# Altium schematic symbol library negm_library.SchLib: 41 symbols
Pins are listed as number, name and electrical type; pins without a type are passive.

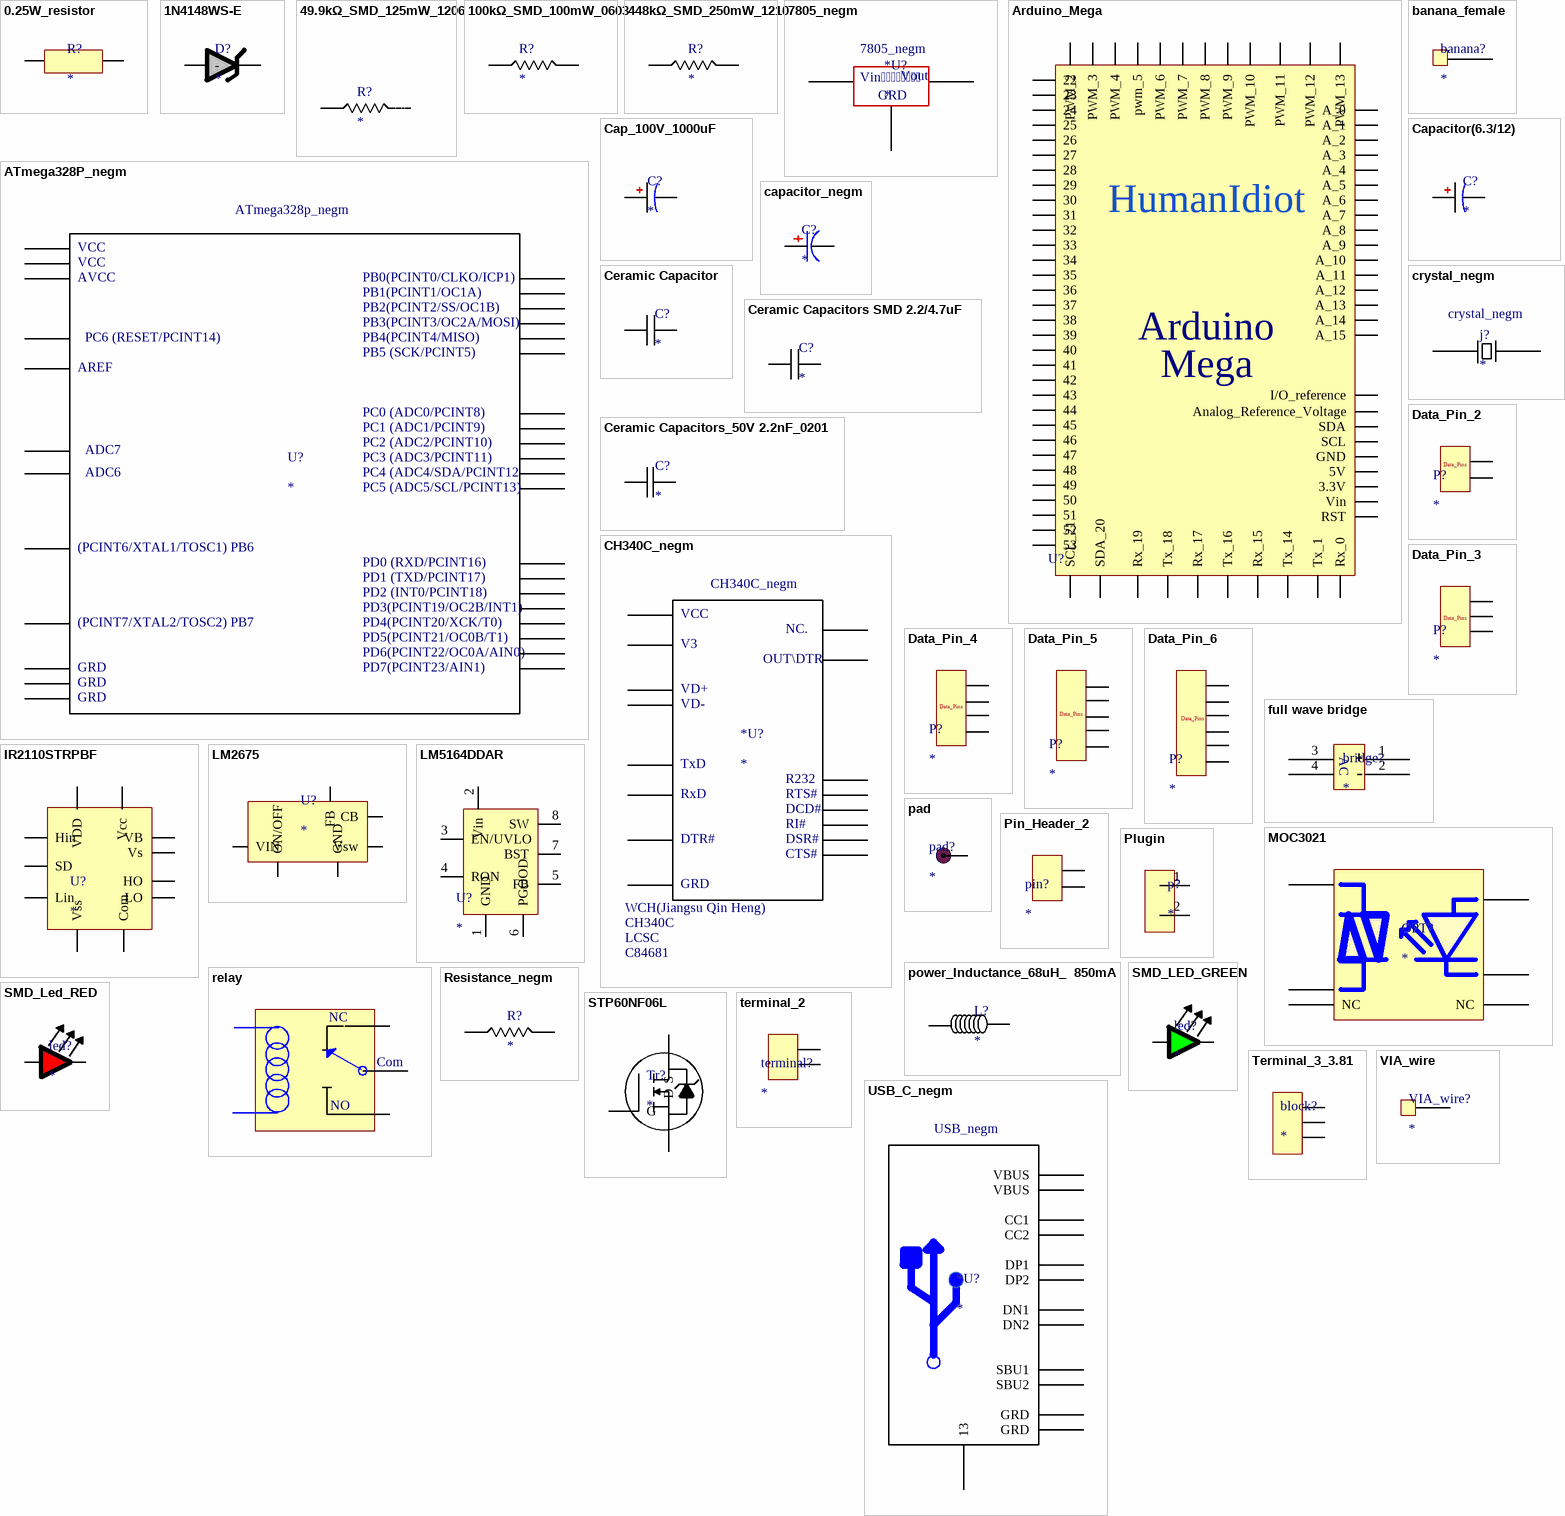
[diagram p0: symbols 0.25W_resistor to VIA_wire]

## 0.25W_resistor
designator R?
footprint 0.25W_resistor
pins: 1, 2

## 1N4148WS-E
designator D?
FAST SWITHING DIODE; Manufacturer: MDD(Microdiode Semiconductor); Manufacturer part number: 1N4148WS-E; supplier: Lcsc; supplier part number: C41371421
footprint 1N4148WS-E (FAST SWITHING DIODE)
pins: 1 +, 2 -

## 49.9kΩ_SMD_125mW_1206
designator R?
125mW Thin Film Resistor 150V ±5ppm/℃ ±0.05% 49.9kΩ 1206 Chip Resistor - Surface Mount ROHS; Manufacturer: Viking Tech; Mfr. Part #: AR06ATS4992; supplier: lcsc; LCSC Part #: C374769
footprint 1206 (125mW Thin Film Resistor 150V ±5ppm/℃ ±0.05% 49.9kΩ 1206 Chip Resistor - Surface Mount ROHS)
pins: 15 54, 16 55
text: /

## 100kΩ_SMD_100mW_0603
designator R?
100mW Thick Film Resistors 75V ±100ppm/℃ ±1% 100kΩ 0603 Chip Resistor - Surface Mount ROHS; Manufacturer: YAGEO; Mfr. Part #: RC0603FR-07100KL; supplier: lcsc; LCSC Part #: C14675
footprint 0603 (100mW Thick Film Resistors 75V ±100ppm/℃ ±1% 100kΩ 0603 Chip Resistor - Surface Mount ROHS)
pins: 15 54, 16 55

## 448kΩ_SMD_250mW_1210
designator R?
250mW Thin Film Resistor ±0.1% ±10ppm/℃ 448kΩ 1210 Chip Resistor - Surface Mount ROHS; Manufacturer: KOA Speer Elec; Mfr. Part #: RN73R2ETTD4483B10; supplier: LCSC; LCSC Part #: C4077686
footprint 1210 (250mW Thin Film Resistor ±0.1% ±10ppm/℃ 448kΩ 1210 Chip Resistor - Surface Mount ROHS)
pins: 15 54, 16 55

## 7805_negm
designator *U?
68dB@(120Hz) 1A Fixed 5V Positive electrode 35V TO-252-2(DPAK) Voltage Regulators - Linear, Low Drop Out (LDO) Regulators ROHS; manufacturer: onsemi; manufacturer part number: MC7805BDTRKG; supplier: LCSC; supplier part number: C110908
footprint 7805_negm (68dB@(120Hz) 1A Fixed 5V Positive electrode 35V TO-252-2(DPAK) Voltage Regulators - Linear, Low Drop Out (LDO) Regulators ROHS(D-PAK, 3-Pads, Body 6.21x6.73mm (max), IPC Medium Density))
pins: 1, 2, 3
text: Vout; Vin; GRD

## Arduino_Mega
designator U?
ARDUINO_MEGA
footprint Arduino Mega (bottom layerc)
pins: 3.3V, 5V, 22, 23, 24, 25, 26, 27, 28, 29, 30, 31, 32, 33, 34, 35, 36, 37, 38, 39, 40, 41, 42, 43, 44, 45, 46, 47, 48, 49, 50, 51, 52, 53, A_0, A_1, A_2, A_3, A_4, A_5, A_6, A_7, A_8, A_9, A_10, A_11, A_12, A_13, A_14, A_15, GND, PWM_2, PWM_3, PWM_4, PWM_5 pwm_5, PWM_6, PWM_7, PWM_8, PWM_9, PWM_10, PWM_11, PWM_12, PWM_13, REF Analog_Reference_Voltage, REF_I/O I/O_reference, RST, Rx_0, Rx_15, Rx_17, Rx_19, SCL, SCL_21, SDA, SDA_20, Tx_1, Tx_1 Tx_16, Tx_14, Tx_18, Vin
text: HumanIdiot; Arduino; Mega

## ATmega328P_negm
designator U?
32KB 2KB FLASH 23 1.8V~5.5V AVR 20MHz TQFP-32(7x7) Microcontrollers (MCU/MPU/SOC) ROHS; Parameter 1: Microchip Tech; Parameter 2: ATMEGA328P-AU; supplier: LCSC; supplier part nember: C14877
footprint ATmega328P_negm (TQFP, 32-Leads, Body 7.00x7.00mm, Pitch 0.80mm, IPC Medium Density_ATmega328P_negm_\  32KB 2KB FLASH 23 1.8V~5.5V AVR 20MHz TQFP-32(7x7) Microcontrollers (MCU/MPU/SOC) ROHS)
pins: 1, 2, 3, 4, 5, 6, 7, 8, 9, 10, 11, 12, 13, 14, 15, 16, 17, 18, 19, 20, 21, 22, 23, 24, 25, 26, 27, 28, 29, 30, 31, 32
text: ATmega328p_negm; VCC; AVCC; PB0(PCINT0/CLKO/ICP1); PB1(PCINT1/OC1A); PB2(PCINT2/SS/OC1B); PB3(PCINT3/OC2A/MOSI); PC6 (RESET/PCINT14); PB4(PCINT4/MISO); PB5 (SCK/PCINT5); AREF; PC0 (ADC0/PCINT8); PC1 (ADC1/PCINT9); PC2 (ADC2/PCINT10); ADC7; PC3 (ADC3/PCINT11); ADC6; PC4 (ADC4/SDA/PCINT12; PC5 (ADC5/SCL/PCINT13); (PCINT6/XTAL1/TOSC1) PB6; PD0 (RXD/PCINT16); PD1 (TXD/PCINT17); PD2 (INT0/PCINT18); PD3(PCINT19/OC2B/INT1); (PCINT7/XTAL2/TOSC2) PB7; PD4(PCINT20/XCK/T0); PD5(PCINT21/OC0B/T1); PD6(PCINT22/OC0A/AIN0); GRD; PD7(PCINT23/AIN1)

## banana_female
designator banana?
footprint banana_female
pins: 100

## Cap_100V_1000uF
designator C?
1000uF 100V ±20% 1.47A@100kHz Plugin,D22xL30mm Aluminum Electrolytic Capacitors - Leaded ROHS; Manufacturer: CX(Dongguan Chengxing Elec); Manufacturer part number: LS108M100N30RR0VH2SP0; supplier: Lcsc; supplier part number: C46444
footprint Cap_100V_1000uF (1000uF 100V ±20% 1.47A@100kHz Plugin,D22xL30mm Aluminum Electrolytic Capacitors - Leaded ROHS)
pins: 100 2, 101 1

## Capacitor(6.3/12)
designator C?
Capacitor  47uF/50V / 10uF/100V / 22uF/100V; Manufacturer: KNSCHA; Mfr. Part #: 03EC0571; supplier: LCSC; LCSC Part #: C2831773
footprint Capacitor_D6.3_L12 (Capacitor 10uF/22uF 100V)
pins: 1, 2

## capacitor_negm
designator C?
10V 10uF X7R ±20% 0805 Multilayer Ceramic Capacitors MLCC - SMD/SMT ROHS; manufacurer: Samwha Capacitor; manufacurer part number: CS2012X7R106M100NRE; supplier: LCSC; supplier part number: C5189822
footprint capacitor_negm (Molded Capacitor, 2-Leads, Body 2.00x1.25mm, IPC Medium Density_10V 10uF X7R ±20% 0805 Multilayer Ceramic Capacitors MLCC - SMD/SMT ROHS)
pins: 1, 2

## Ceramic Capacitor
designator C?
el 3adsaia / 10nF,100nF,100pF
footprint Ceramic Capacitor (el 3adsaia / 10nF,100nF,100pF)
pins: 1, 2

## Ceramic Capacitors SMD 2.2/4.7uF
designator C?
25V 2.2uF X5R ±10% 0603 Multilayer Ceramic Capacitors MLCC - SMD/SMT ROHS; Manufacturer: FH (Guangdong Fenghua Advanced Tech); Mfr. Part #: 0603X225K250NT; supplier: LCSC; LCSC Part #: C99227
footprint 0603 (100mW Thick Film Resistors 75V ±100ppm/℃ ±1% 100kΩ 0603 Chip Resistor - Surface Mount ROHS)
pins: 15 56, 16 57

## Ceramic Capacitors_50V 2.2nF_0201
designator C?
50V 2.2nF X7R ±10% 0201 Multilayer Ceramic Capacitors MLCC - SMD/SMT ROHS; Manufacturer: CCTC; Manufacturer part number: TCC0201X7R222K500ZT; supplier: LCSC; supplier part number: C5142540
footprint SMD_Ceramic Capacitors_50V 2.2nF (50V 2.2nF X7R ±10% 0201 Multilayer Ceramic Capacitors MLCC - SMD/SMT ROHS)
pins: 1 52, 2 53

## CH340C_negm
designator *U?  supplier part nummber: C84681  supplier: LCSC  manufacturer part number: CH340C  manufacturer: WCH(Jiangsu Qin Heng)
2Mbps Transceiver USB 2.0 SOP-16 USB Converters ROHS
footprint CH340C_negm - duplicate (SOIC, 16-Leads, Body 10.30x5.30mm, Pitch 1.27mm, IPC Medium Density_  SOP-16 USB Converters ROHS)
pins: 1 (power), 2, 3, 4, 5, 6, 7, 8, 9, 10, 11, 12, 13, 14, 15, 16 (power)
text: VCC; NC.; V3; OUT\DTR; VD+; VD-; TxD; R232; RxD; RTS#; DCD#; RI#; DTR#; DSR#; CTS#; GRD

## crystal_negm
designator j?
16MHz SMD crystal oscillator 12pF ±10ppm ±20ppm SMD3225-4P Crystals ROHS; manufacurer: YXC Crystal Oscillators; manufacurer part nummber: X322516MOB4SI; supplier: LCSC; supplier part nummber: C12668
footprint crystal_negm (16MHz SMD crystal oscillator 12pF ±10ppm ±20ppm SMD3225-4P Crystals ROHS)
pins: 1, 2

## Data_Pin_2
designator P?
footprint Data_Pin_2
pins: 1, 2
text: Data_Pins

## Data_Pin_3
designator P?
footprint Data_Pin_3
pins: 1, 2, 3
text: Data_Pins

## Data_Pin_4
designator P?
footprint Data_Pin_4
pins: 1, 2, 3, 4
text: Data_Pins

## Data_Pin_5
designator P?
footprint Data_Pin_5
pins: 1, 2, 3, 4, 5
text: Data_Pins

## Data_Pin_6
designator P?
footprint Data_Pin_6
pins: 1, 2, 3, 4, 5, 6
text: Data_Pins

## full wave bridge
designator bridge?
footprint full wave bridge
pins: 1, 2, 3, 4
text: AC

## IR2110STRPBF
designator U?
Half Bridge 2 2A 25ns 17ns 3.3V~20V 2A SOIC-16-300mil Gate Drivers ROHS; Manufacturer: Infineon Technologies; Manufacturer part number: IR2110STRPBF; supplier: lcsc; supplier part number: C2968
footprint IR2110STRPBF (Half Bridge 2 2A 25ns 17ns 3.3V~20V 2A SOIC-16-300mil Gate Drivers ROHS)
pins: 1 LO, 2 Com, 3 Vcc, 6 Vs, 7 VB, 8 HO, 11 VDD, 12 Hin, 13 SD, 14 Lin, 15 Vss

## LM2675
designator U?
buck converter / Input Voltage: 6.5V to 40V / Output Current: Up to 1A / Efficiency: Up to 96%Switching Frequency: 260 kHzFixed / Output Voltages: 3.3V, 5V, 12V, and an adjustable version (1.21V to 37V)
footprint LM2675 (buck converter / Input Voltage: 6.5V to 40V / Output Current: Up to 1A / Efficiency: Up to 96%Switching Frequency: 260 kHzFixed / Output Voltages: 3.3V, 5V, 12V, and an adjustable version (1.21V to 37V))
pins: 1 CB, 4 FB, 5 ON/OFF, 6 GND, 7 VIN, 8 Vsw

## LM5164DDAR
designator U?
Step-down type Adjustable 1.2V~100V 1A 6V~100V SO-8-EP DC-DC Converters ROHS; Manufacturer: Texas Instruments; Manufacturer part number: LM5164DDAR; supplier: LCSc; supplier part number: C477928
footprint LM5164DDAR (Step-down type Adjustable 1.2V~100V 1A 6V~100V SO-8-EP DC-DC Converters ROHS)
pins: 1 GND, 2 Vin, 3 EN/UVLO, 4 RON, 5 FB, 6 PGOOD, 7 BST, 8 SW

## MOC3021
designator OPT?
footprint MOC3021
pins: 1, 2, 3 NC, 4 NC, 5, 6

## pad
designator pad?
footprint pad
pins: 2000 58

## Pin_Header_2
designator pin?
pin header
footprint pin header_2
pins: 38, 39

## Plugin
designator p?
1x2P With Cover Plate 2 1 16mm -40℃~+105℃ 76A 1kV Black 6~14 Straight Needle 16 Plugin,P=16mm Barrier Terminal Blocks ROHS
footprint Plugin
pins: 1 18, 2 19

## power_Inductance_68uH_  850mA
designator L?
850mA 68uH ±20% 950mA SMD,6x6mm Power Inductors ROHS; Manufacturer: Ceaiya; Manufacturer part number: CR6028-680M; supplier: LCSC; supplier oart number: C7588759
footprint power Inductors_68uH_SMD (850mA 68uH ±20% 950mA SMD,6x6mm Power Inductors ROHS)
pins: 1, 2

## relay
designator relay?  (value not drawn)
footprint relay
pins: 1, 2, 3, 4, 5
text: NC; Com; NO

## Resistance_negm
designator R?
100mW Thick Film Resistors 75V ±100ppm/℃ ±1% 1kΩ 0603 Chip Resistor - Surface Mount ROHS; manufacturer: UNI-ROYAL(Uniroyal Elec); manufacturer part number: 0603WAF1001T5E; supplier: LCSC; supplier part number: C21190
footprint Resistor_negm - duplicate (Chip Resistor, 2-Leads, Body 1.60x0.80mm, IPC Medium Density_100mW Thick Film Resistors 75V ±100ppm/? ±1% 1kO 0603 Chip Resistor - Surface Mount ROHS)
pins: 1, 2

## SMD_LED_GREEN
designator led?
Manufacturer1: Amicc; Manufacturer part number: A-SP136G2C-C01-3T; supplier: lcsc; supplier part number: C5160718
footprint SMD_Led
pins: 25 positive, 30 negative

## SMD_Led_RED
designator led?
25mA Colorless Transparent Lens 67mcd~195mcd -30℃~+85℃ 615nm~630nm Independent Diode Red 130° 65mW 1.6V~2.6V 0805 LED Indication - Discrete ROHS; Manufacturer: Foshan NationStar Optoelectronics; Manufacturer part number: NCD0805R1; supplier: Lcsc; supplier part number: C84256
footprint SMD_Led
pins: 25 positive, 30 negative

## STP60NF06L
designator Tr?
60V 60A 110W 14mΩ@10V,30A 1V@250uA 1 N-channel TO-220 MOSFETs ROHS; manufacurer: STMicroelectronics; Manufacturer Part Number: STP60NF06L; Supplier: Lcsc; Supplier Part number: C55455
footprint STP60NF06L (60V 60A 110W 14mΩ@10V,30A 1V@250uA 1 N-channel TO-220 MOSFETs ROHS)
pins: 1 G, 2 D, 3 S

## terminal_2
designator terminal?
footprint terminal_2
pins: 1 40, 2 41

## Terminal_3_3.81
designator block?
Manufacturer: Phoenix Contact; Manufacturer part number: 1727023; supplier: lcsc; supplier part number: C91149
footprint terminal_3 (1x3P 13.5A 200V Green 16~30 Direct Insert 3.81mm 1 3 Plugin,P=3.81mm Screw Terminal Blocks ROHS)
pins: 54 36, 55 35, 56 37

## USB_C_negm
designator *U?
5A 1 16P Female Type-C SMD USB Connectors ROHS; Manufacturer: Korean Hroparts Elec; Manufacturer Part Number: TYPE-C-31-M-12; Supplier: LCSC; Supplier Part Number: C165948
footprint USB_ C_negm
pins: 13, A1B12 GRD, A4B9 VBUS, A5 CC1, A6 DP1, A7 DN1, A8 SBU1, A9B4 VBUS, A12B1 GRD, B5 CC2, B6 DP2, B7 DN2, B8 SBU2
text: USB_negm

## VIA_wire
designator VIA_wire?
footprint VIA_wire
pins: 111

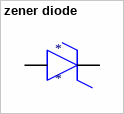
[diagram p1: symbol zener diode]

## zener diode
designator *
footprint zener diode
pins: 1, 2